# Altium integrated library TI Power Management Supervisor and Reset IC.IntLib: 819 symbols (part 10 of 30)
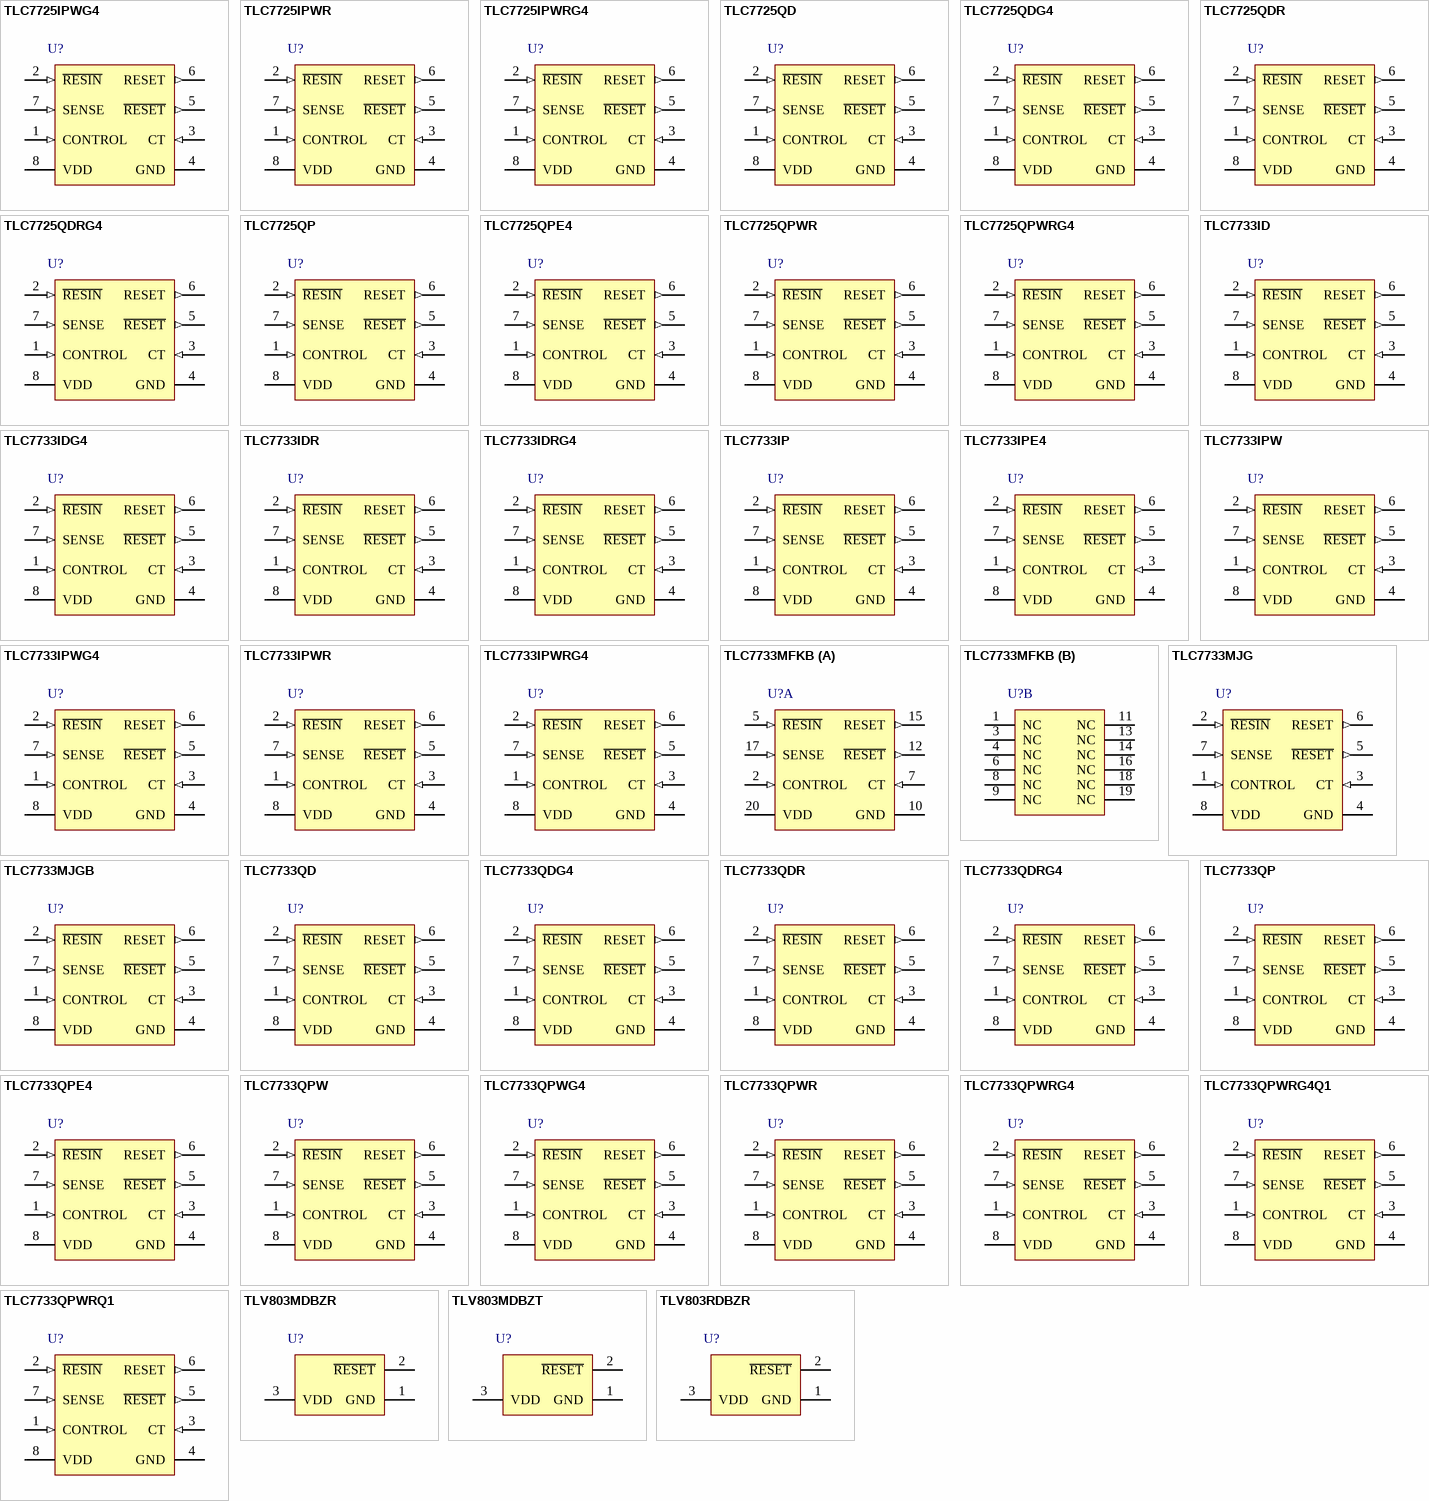
[diagram p30: symbols TLC7725IPWG4 to TLV803RDBZR]

## TLC7733QPWG4
designator U?
Single Supply Voltage Supervisor for 3.3 V Systems with Programmable Time Delay, 1 Supply Monitored, -40 to 125 degC, 8-pin TSSOP (PW), Green (RoHS & no Sb/Br); Manufacturer: Texas Instruments; PartNumber: TLC7733QPWG4; # of supplies monitored: 1; Iq(Typ)(uA): 9; Output Driver Type / Reset Output: Active-low, Push-pull, Active-high, Push-pull; Rating: Catalog; Reset Threshold Accuracy(%): 2.4; SubFamily: Supervisor and Reset IC; Threshold Voltage 1 (typ)(Typ)(V): 2.93; VCC(Max)(V): 6; VCC(Min)(V): 2; DatasheetVersion: SLVS087M; PackageVersion: revG, Feb-2011; PackageReference: PW8; PackageDescription: 8-Pin Plastic Thin Small Outline Package 3 x 4.4 mm Body ,0.65 mm Pitch; Supplier 1: Digi-Key; Supplier Part Number 1: TLC7733QPWG4-ND; Supplier 2: Newark; Supplier Part Number 2: 54K1054; Supplier 3: Mouser; Supplier Part Number 3: 595-TLC7733QPWG4; Time Delay(ms): Programmable; Mounting Technology: Surface Mount; Code_JEDEC: MO-153; ComponentLink1Description: Datasheet; ComponentLink1URL: http://www.ti.com/general/docs/lit/getliterature.tsp?genericPartNumber=TLC7733&fileType=pdf
footprint PW8_N (TSOP, 8-Leads, Body 3x4.4mm, Pitch 0.65mm, IPC Medium Density)
footprint PW8_L (TSOP, 8-Leads, Body 3x4.4mm, Pitch 0.65mm, IPC High Density)
footprint PW8_M (TSOP, 8-Leads, Body 3x4.4mm, Pitch 0.65mm, IPC Low Density)
pins: 1 CONTROL (in), 2 ~{RESIN} (in), 3 CT (in), 4 GND (power), 5 ~{RESET} (out), 6 RESET (out), 7 SENSE (in), 8 VDD (power)

## TLC7733QPWR
designator U?
Single Supply Voltage Supervisor for 3.3 V Systems with Programmable Time Delay, 1 Supply Monitored, -40 to 125 degC, 8-pin TSSOP (PW), Green (RoHS & no Sb/Br); Manufacturer: Texas Instruments; PartNumber: TLC7733QPWR; # of supplies monitored: 1; Iq(Typ)(uA): 9; Output Driver Type / Reset Output: Active-low, Push-pull, Active-high, Push-pull; Rating: Catalog; Reset Threshold Accuracy(%): 2.4; SubFamily: Supervisor and Reset IC; Threshold Voltage 1 (typ)(Typ)(V): 2.93; VCC(Max)(V): 6; VCC(Min)(V): 2; DatasheetVersion: SLVS087M; PackageVersion: revG, Feb-2011; PackageReference: PW8; PackageDescription: 8-Pin Plastic Thin Small Outline Package 3 x 4.4 mm Body ,0.65 mm Pitch; Supplier 1: Digi-Key; Supplier Part Number 1: 296-3288-2-ND; Supplier 2: Digi-Key; Supplier Part Number 2: 296-3288-1-ND; Supplier 3: Digi-Key; Supplier Part Number 3: 296-3288-6-ND; Supplier 4: Newark; Supplier Part Number 4: 76C7555; Supplier 5: Mouser; Supplier Part Number 5: 595-TLC7733QPWR; Time Delay(ms): Programmable; Mounting Technology: Surface Mount; Code_JEDEC: MO-153; ComponentLink1Description: Datasheet; ComponentLink1URL: http://www.ti.com/general/docs/lit/getliterature.tsp?genericPartNumber=TLC7733&fileType=pdf
footprint PW8_N (TSOP, 8-Leads, Body 3x4.4mm, Pitch 0.65mm, IPC Medium Density)
footprint PW8_L (TSOP, 8-Leads, Body 3x4.4mm, Pitch 0.65mm, IPC High Density)
footprint PW8_M (TSOP, 8-Leads, Body 3x4.4mm, Pitch 0.65mm, IPC Low Density)
pins: 1 CONTROL (in), 2 ~{RESIN} (in), 3 CT (in), 4 GND (power), 5 ~{RESET} (out), 6 RESET (out), 7 SENSE (in), 8 VDD (power)

## TLC7733QPWRG4
designator U?
Single Supply Voltage Supervisor for 3.3 V Systems with Programmable Time Delay, 1 Supply Monitored, -40 to 125 degC, 8-pin TSSOP (PW), Green (RoHS & no Sb/Br); Manufacturer: Texas Instruments; PartNumber: TLC7733QPWRG4; # of supplies monitored: 1; Iq(Typ)(uA): 9; Output Driver Type / Reset Output: Active-low, Push-pull, Active-high, Push-pull; Rating: Catalog; Reset Threshold Accuracy(%): 2.4; SubFamily: Supervisor and Reset IC; Threshold Voltage 1 (typ)(Typ)(V): 2.93; VCC(Max)(V): 6; VCC(Min)(V): 2; DatasheetVersion: SLVS087M; PackageVersion: revG, Feb-2011; PackageReference: PW8; PackageDescription: 8-Pin Plastic Thin Small Outline Package 3 x 4.4 mm Body ,0.65 mm Pitch; Supplier 1: Digi-Key; Supplier Part Number 1: TLC7733QPWRG4-ND; Supplier 2: Newark; Supplier Part Number 2: 54K1055; Supplier 3: Mouser; Supplier Part Number 3: 595-TLC7733QPWRG4; Time Delay(ms): Programmable; Mounting Technology: Surface Mount; Code_JEDEC: MO-153; ComponentLink1Description: Datasheet; ComponentLink1URL: http://www.ti.com/general/docs/lit/getliterature.tsp?genericPartNumber=TLC7733&fileType=pdf
footprint PW8_N (TSOP, 8-Leads, Body 3x4.4mm, Pitch 0.65mm, IPC Medium Density)
footprint PW8_L (TSOP, 8-Leads, Body 3x4.4mm, Pitch 0.65mm, IPC High Density)
footprint PW8_M (TSOP, 8-Leads, Body 3x4.4mm, Pitch 0.65mm, IPC Low Density)
pins: 1 CONTROL (in), 2 ~{RESIN} (in), 3 CT (in), 4 GND (power), 5 ~{RESET} (out), 6 RESET (out), 7 SENSE (in), 8 VDD (power)

## TLC7733QPWRG4Q1
designator U?
Automotive Catalog Micropower Supply Voltage Supervisor, 1 Supply Monitored, -40 to 125 degC, 8-pin TSSOP (PW), Green (RoHS & no Sb/Br); Manufacturer: Texas Instruments; PartNumber: TLC7733QPWRG4Q1; # of supplies monitored: 1; Iq(Typ)(uA): 9; Output Driver Type / Reset Output: Active-low, Push-pull, Active-high, Push-pull; Reset Threshold Accuracy(%): 2.4; SubFamily: Supervisor and Reset IC; Threshold Voltage 1 (typ)(Typ)(V): 2.93; Time Delay(ms): Programmable; VCC(Max)(V): 6; VCC(Min)(V): 2; DatasheetVersion: SGLS208A; PackageVersion: revG, Feb-2011; PackageReference: PW8; PackageDescription: 8-Pin Plastic Thin Small Outline Package 3 x 4.4 mm Body ,0.65 mm Pitch; Supplier 1: Digi-Key; Supplier Part Number 1: TLC7733QPWRG4Q1-ND; Supplier 2: Mouser; Supplier Part Number 2: 595-TLC7733QPWRG4Q1; Rating: Automotive; Mounting Technology: Surface Mount; Code_JEDEC: MO-153; ComponentLink1Description: Datasheet; ComponentLink1URL: http://www.ti.com/general/docs/lit/getliterature.tsp?genericPartNumber=TLC7733-Q1&fileType=pdf
footprint PW8_N (TSOP, 8-Leads, Body 3x4.4mm, Pitch 0.65mm, IPC Medium Density)
footprint PW8_L (TSOP, 8-Leads, Body 3x4.4mm, Pitch 0.65mm, IPC High Density)
footprint PW8_M (TSOP, 8-Leads, Body 3x4.4mm, Pitch 0.65mm, IPC Low Density)
pins: 1 CONTROL (in), 2 ~{RESIN} (in), 3 CT (in), 4 GND (power), 5 ~{RESET} (out), 6 RESET (out), 7 SENSE (in), 8 VDD (power)

## TLC7733QPWRQ1
designator U?
Automotive Catalog Micropower Supply Voltage Supervisor, 1 Supply Monitored, -40 to 125 degC, 8-pin TSSOP (PW), Green (RoHS & no Sb/Br); Manufacturer: Texas Instruments; PartNumber: TLC7733QPWRQ1; # of supplies monitored: 1; Iq(Typ)(uA): 9; Output Driver Type / Reset Output: Active-low, Push-pull, Active-high, Push-pull; Reset Threshold Accuracy(%): 2.4; SubFamily: Supervisor and Reset IC; Threshold Voltage 1 (typ)(Typ)(V): 2.93; Time Delay(ms): Programmable; VCC(Max)(V): 6; VCC(Min)(V): 2; DatasheetVersion: SGLS208A; PackageVersion: revG, Feb-2011; PackageReference: PW8; PackageDescription: 8-Pin Plastic Thin Small Outline Package 3 x 4.4 mm Body ,0.65 mm Pitch; Supplier 1: Digi-Key; Supplier Part Number 1: TLC7733QPWRQ1-ND; Supplier 2: Mouser; Supplier Part Number 2: 595-TLC7733QPWRQ1; Rating: Automotive; Mounting Technology: Surface Mount; Code_JEDEC: MO-153; ComponentLink1Description: Datasheet; ComponentLink1URL: http://www.ti.com/general/docs/lit/getliterature.tsp?genericPartNumber=TLC7733-Q1&fileType=pdf
footprint PW8_N (TSOP, 8-Leads, Body 3x4.4mm, Pitch 0.65mm, IPC Medium Density)
footprint PW8_L (TSOP, 8-Leads, Body 3x4.4mm, Pitch 0.65mm, IPC High Density)
footprint PW8_M (TSOP, 8-Leads, Body 3x4.4mm, Pitch 0.65mm, IPC Low Density)
pins: 1 CONTROL (in), 2 ~{RESIN} (in), 3 CT (in), 4 GND (power), 5 ~{RESET} (out), 6 RESET (out), 7 SENSE (in), 8 VDD (power)

## TLV803MDBZR
designator U?
Voltage Supervisor with Active-Low, Open Drain Reset, 1 Supply Monitored, -40 to 125 degC, 3-pin SOT-23 (DBZ), Green (RoHS & no Sb/Br); Manufacturer: Texas Instruments; PartNumber: TLV803MDBZR; # of supplies monitored: 1; Iq(Typ)(uA): 9; Output Driver Type / Reset Output: Active-low, Open-drain; Rating: Catalog; Reset Threshold Accuracy(%): 2; SubFamily: Supervisor and Reset IC; Threshold Voltage 1 (typ)(Typ)(V): 4.38; Time Delay(ms): 200; VCC(Max)(V): 6; VCC(Min)(V): 1.1; DatasheetVersion: SBVS157B; PackageVersion: revB, Apr-2005; PackageReference: DBZ3; PackageDescription: 3-Pin Plastic Small-Outline Package, 0.95 mm Pitch, 2.4 mm Lead Span; Supplier 1: Digi-Key; Supplier Part Number 1: 296-29194-2-ND; Supplier 2: Digi-Key; Supplier Part Number 2: 296-29194-1-ND; Supplier 3: Digi-Key; Supplier Part Number 3: 296-29194-6-ND; Supplier 4: Newark; Supplier Part Number 4: 58T0286; Supplier 5: Mouser; Supplier Part Number 5: 595-TLV803MDBZR; Mounting Technology: Surface Mount; Code_JEDEC: TO-236-AB; ComponentLink1Description: Datasheet; ComponentLink1URL: http://www.ti.com/general/docs/lit/getliterature.tsp?genericPartNumber=TLV803M&fileType=pdf
footprint DBZ3_N (SOT23, 3-Leads, Body 2.9x1.3mm, Pitch 0.95mm, Lead Span 2.4mm, IPC Medium Density)
footprint DBZ3_L (SOT23, 3-Leads, Body 2.9x1.3mm, Pitch 0.95mm, Lead Span 2.4mm, IPC High Density)
footprint DBZ3_M (SOT23, 3-Leads, Body 2.9x1.3mm, Pitch 0.95mm, Lead Span 2.4mm, IPC Low Density)
pins: 1 GND (power), 2 ~{RESET} (oc), 3 VDD (power)

## TLV803MDBZT
designator U?
Voltage Supervisor with Active-Low, Open Drain Reset, 1 Supply Monitored, -40 to 125 degC, 3-pin SOT-23 (DBZ), Green (RoHS & no Sb/Br); Manufacturer: Texas Instruments; PartNumber: TLV803MDBZT; # of supplies monitored: 1; Iq(Typ)(uA): 9; Output Driver Type / Reset Output: Active-low, Open-drain; Rating: Catalog; Reset Threshold Accuracy(%): 2; SubFamily: Supervisor and Reset IC; Threshold Voltage 1 (typ)(Typ)(V): 4.38; Time Delay(ms): 200; VCC(Max)(V): 6; VCC(Min)(V): 1.1; DatasheetVersion: SBVS157B; PackageVersion: revB, Apr-2005; PackageReference: DBZ3; PackageDescription: 3-Pin Plastic Small-Outline Package, 0.95 mm Pitch, 2.4 mm Lead Span; Supplier 1: Digi-Key; Supplier Part Number 1: TLV803MDBZT-ND; Supplier 2: Newark; Supplier Part Number 2: 58T0287; Supplier 3: Mouser; Supplier Part Number 3: 595-TLV803MDBZT; Mounting Technology: Surface Mount; Code_JEDEC: TO-236-AB; ComponentLink1Description: Datasheet; ComponentLink1URL: http://www.ti.com/general/docs/lit/getliterature.tsp?genericPartNumber=TLV803M&fileType=pdf
footprint DBZ3_N (SOT23, 3-Leads, Body 2.9x1.3mm, Pitch 0.95mm, Lead Span 2.4mm, IPC Medium Density)
footprint DBZ3_L (SOT23, 3-Leads, Body 2.9x1.3mm, Pitch 0.95mm, Lead Span 2.4mm, IPC High Density)
footprint DBZ3_M (SOT23, 3-Leads, Body 2.9x1.3mm, Pitch 0.95mm, Lead Span 2.4mm, IPC Low Density)
pins: 1 GND (power), 2 ~{RESET} (oc), 3 VDD (power)

## TLV803RDBZR
designator U?
Voltage Supervisor with Active-Low, Open Drain Reset, 1 Supply Monitored, -40 to 125 degC, 3-pin SOT-23 (DBZ), Green (RoHS & no Sb/Br); Manufacturer: Texas Instruments; PartNumber: TLV803RDBZR; # of supplies monitored: 1; Iq(Typ)(uA): 9; Output Driver Type / Reset Output: Active-low, Open-drain; Rating: Catalog; Reset Threshold Accuracy(%): 2; SubFamily: Supervisor and Reset IC; Threshold Voltage 1 (typ)(Typ)(V): 2.63; Time Delay(ms): 200; VCC(Max)(V): 6; VCC(Min)(V): 1.1; DatasheetVersion: SBVS157B; PackageVersion: revB, Apr-2005; PackageReference: DBZ3; PackageDescription: 3-Pin Plastic Small-Outline Package, 0.95 mm Pitch, 2.4 mm Lead Span; Supplier 1: Digi-Key; Supplier Part Number 1: 296-29195-2-ND; Supplier 2: Digi-Key; Supplier Part Number 2: 296-29195-1-ND; Supplier 3: Digi-Key; Supplier Part Number 3: 296-29195-6-ND; Supplier 4: Mouser; Supplier Part Number 4: 595-TLV803RDBZR; Mounting Technology: Surface Mount; Code_JEDEC: TO-236-AB; ComponentLink1Description: Datasheet; ComponentLink1URL: http://www.ti.com/general/docs/lit/getliterature.tsp?genericPartNumber=TLV803R&fileType=pdf
footprint DBZ3_N (SOT23, 3-Leads, Body 2.9x1.3mm, Pitch 0.95mm, Lead Span 2.4mm, IPC Medium Density)
footprint DBZ3_L (SOT23, 3-Leads, Body 2.9x1.3mm, Pitch 0.95mm, Lead Span 2.4mm, IPC High Density)
footprint DBZ3_M (SOT23, 3-Leads, Body 2.9x1.3mm, Pitch 0.95mm, Lead Span 2.4mm, IPC Low Density)
pins: 1 GND (power), 2 ~{RESET} (oc), 3 VDD (power)

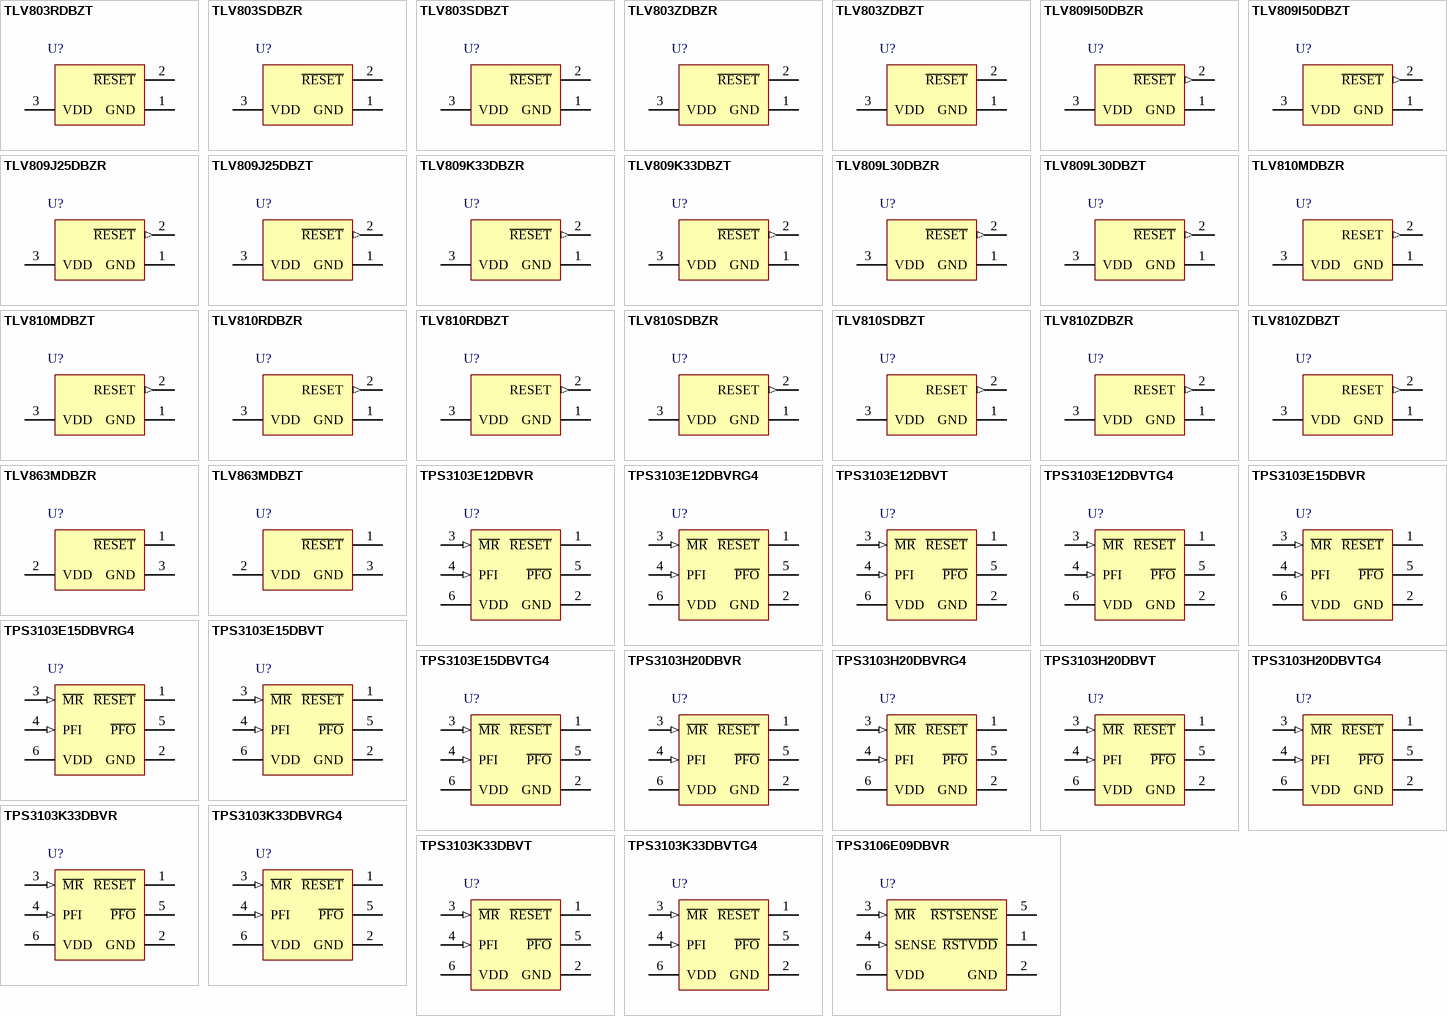
[diagram p8: symbols TLV803RDBZT to TPS3106E09DBVR]

## TLV803RDBZT
designator U?
Voltage Supervisor with Active-Low, Open Drain Reset, 1 Supply Monitored, -40 to 125 degC, 3-pin SOT-23 (DBZ), Green (RoHS & no Sb/Br); Manufacturer: Texas Instruments; PartNumber: TLV803RDBZT; # of supplies monitored: 1; Iq(Typ)(uA): 9; Output Driver Type / Reset Output: Active-low, Open-drain; Rating: Catalog; Reset Threshold Accuracy(%): 2; SubFamily: Supervisor and Reset IC; Threshold Voltage 1 (typ)(Typ)(V): 2.63; Time Delay(ms): 200; VCC(Max)(V): 6; VCC(Min)(V): 1.1; DatasheetVersion: SBVS157B; PackageVersion: revB, Apr-2005; PackageReference: DBZ3; PackageDescription: 3-Pin Plastic Small-Outline Package, 0.95 mm Pitch, 2.4 mm Lead Span; Supplier 1: Digi-Key; Supplier Part Number 1: TLV803RDBZT-ND; Supplier 2: Mouser; Supplier Part Number 2: 595-TLV803RDBZT; Mounting Technology: Surface Mount; Code_JEDEC: TO-236-AB; ComponentLink1Description: Datasheet; ComponentLink1URL: http://www.ti.com/general/docs/lit/getliterature.tsp?genericPartNumber=TLV803R&fileType=pdf
footprint DBZ3_N (SOT23, 3-Leads, Body 2.9x1.3mm, Pitch 0.95mm, Lead Span 2.4mm, IPC Medium Density)
footprint DBZ3_L (SOT23, 3-Leads, Body 2.9x1.3mm, Pitch 0.95mm, Lead Span 2.4mm, IPC High Density)
footprint DBZ3_M (SOT23, 3-Leads, Body 2.9x1.3mm, Pitch 0.95mm, Lead Span 2.4mm, IPC Low Density)
pins: 1 GND (power), 2 ~{RESET} (oc), 3 VDD (power)

## TLV803SDBZR
designator U?
Voltage Supervisor with Active-Low, Open Drain Reset, 1 Supply Monitored, -40 to 125 degC, 3-pin SOT-23 (DBZ), Green (RoHS & no Sb/Br); Manufacturer: Texas Instruments; PartNumber: TLV803SDBZR; # of supplies monitored: 1; Iq(Typ)(uA): 9; Output Driver Type / Reset Output: Active-low, Open-drain; Rating: Catalog; Reset Threshold Accuracy(%): 2; SubFamily: Supervisor and Reset IC; Threshold Voltage 1 (typ)(Typ)(V): 2.93; Time Delay(ms): 200; VCC(Max)(V): 6; VCC(Min)(V): 1.1; DatasheetVersion: SBVS157B; PackageVersion: revB, Apr-2005; PackageReference: DBZ3; PackageDescription: 3-Pin Plastic Small-Outline Package, 0.95 mm Pitch, 2.4 mm Lead Span; Supplier 1: Digi-Key; Supplier Part Number 1: 296-29196-2-ND; Supplier 2: Digi-Key; Supplier Part Number 2: 296-29196-1-ND; Supplier 3: Digi-Key; Supplier Part Number 3: 296-29196-6-ND; Supplier 4: Newark; Supplier Part Number 4: 58T0290; Supplier 5: Mouser; Supplier Part Number 5: 595-TLV803SDBZR; Mounting Technology: Surface Mount; Code_JEDEC: TO-236-AB; ComponentLink1Description: Datasheet; ComponentLink1URL: http://www.ti.com/general/docs/lit/getliterature.tsp?genericPartNumber=TLV803S&fileType=pdf
footprint DBZ3_N (SOT23, 3-Leads, Body 2.9x1.3mm, Pitch 0.95mm, Lead Span 2.4mm, IPC Medium Density)
footprint DBZ3_L (SOT23, 3-Leads, Body 2.9x1.3mm, Pitch 0.95mm, Lead Span 2.4mm, IPC High Density)
footprint DBZ3_M (SOT23, 3-Leads, Body 2.9x1.3mm, Pitch 0.95mm, Lead Span 2.4mm, IPC Low Density)
pins: 1 GND (power), 2 ~{RESET} (oc), 3 VDD (power)

## TLV803SDBZT
designator U?
Voltage Supervisor with Active-Low, Open Drain Reset, 1 Supply Monitored, -40 to 125 degC, 3-pin SOT-23 (DBZ), Green (RoHS & no Sb/Br); Manufacturer: Texas Instruments; PartNumber: TLV803SDBZT; # of supplies monitored: 1; Iq(Typ)(uA): 9; Output Driver Type / Reset Output: Active-low, Open-drain; Rating: Catalog; Reset Threshold Accuracy(%): 2; SubFamily: Supervisor and Reset IC; Threshold Voltage 1 (typ)(Typ)(V): 2.93; Time Delay(ms): 200; VCC(Max)(V): 6; VCC(Min)(V): 1.1; DatasheetVersion: SBVS157B; PackageVersion: revB, Apr-2005; PackageReference: DBZ3; PackageDescription: 3-Pin Plastic Small-Outline Package, 0.95 mm Pitch, 2.4 mm Lead Span; Supplier 1: Digi-Key; Supplier Part Number 1: 296-30524-2-ND; Supplier 2: Digi-Key; Supplier Part Number 2: 296-30524-1-ND; Supplier 3: Digi-Key; Supplier Part Number 3: 296-30524-6-ND; Supplier 4: Newark; Supplier Part Number 4: 58T0291; Supplier 5: Mouser; Supplier Part Number 5: 595-TLV803SDBZT; Mounting Technology: Surface Mount; Code_JEDEC: TO-236-AB; ComponentLink1Description: Datasheet; ComponentLink1URL: http://www.ti.com/general/docs/lit/getliterature.tsp?genericPartNumber=TLV803S&fileType=pdf
footprint DBZ3_N (SOT23, 3-Leads, Body 2.9x1.3mm, Pitch 0.95mm, Lead Span 2.4mm, IPC Medium Density)
footprint DBZ3_L (SOT23, 3-Leads, Body 2.9x1.3mm, Pitch 0.95mm, Lead Span 2.4mm, IPC High Density)
footprint DBZ3_M (SOT23, 3-Leads, Body 2.9x1.3mm, Pitch 0.95mm, Lead Span 2.4mm, IPC Low Density)
pins: 1 GND (power), 2 ~{RESET} (oc), 3 VDD (power)

## TLV803ZDBZR
designator U?
Voltage Supervisor with Active-Low, Open Drain Reset, 1 Supply Monitored, -40 to 125 degC, 3-pin SOT-23 (DBZ), Green (RoHS & no Sb/Br); Manufacturer: Texas Instruments; PartNumber: TLV803ZDBZR; # of supplies monitored: 1; Iq(Typ)(uA): 9; Output Driver Type / Reset Output: Active-low, Open-drain; Rating: Catalog; Reset Threshold Accuracy(%): 2; SubFamily: Supervisor and Reset IC; Threshold Voltage 1 (typ)(Typ)(V): 2.32; Time Delay(ms): 200; VCC(Max)(V): 6; VCC(Min)(V): 1.1; DatasheetVersion: SBVS157B; PackageVersion: revB, Apr-2005; PackageReference: DBZ3; PackageDescription: 3-Pin Plastic Small-Outline Package, 0.95 mm Pitch, 2.4 mm Lead Span; Supplier 1: Digi-Key; Supplier Part Number 1: 296-29197-2-ND; Supplier 2: Digi-Key; Supplier Part Number 2: 296-29197-1-ND; Supplier 3: Digi-Key; Supplier Part Number 3: 296-29197-6-ND; Supplier 4: Mouser; Supplier Part Number 4: 595-TLV803ZDBZR; Mounting Technology: Surface Mount; Code_JEDEC: TO-236-AB; ComponentLink1Description: Datasheet; ComponentLink1URL: http://www.ti.com/general/docs/lit/getliterature.tsp?genericPartNumber=TLV803Z&fileType=pdf
footprint DBZ3_N (SOT23, 3-Leads, Body 2.9x1.3mm, Pitch 0.95mm, Lead Span 2.4mm, IPC Medium Density)
footprint DBZ3_L (SOT23, 3-Leads, Body 2.9x1.3mm, Pitch 0.95mm, Lead Span 2.4mm, IPC High Density)
footprint DBZ3_M (SOT23, 3-Leads, Body 2.9x1.3mm, Pitch 0.95mm, Lead Span 2.4mm, IPC Low Density)
pins: 1 GND (power), 2 ~{RESET} (oc), 3 VDD (power)

## TLV803ZDBZT
designator U?
Voltage Supervisor with Active-Low, Open Drain Reset, 1 Supply Monitored, -40 to 125 degC, 3-pin SOT-23 (DBZ), Green (RoHS & no Sb/Br); Manufacturer: Texas Instruments; PartNumber: TLV803ZDBZT; # of supplies monitored: 1; Iq(Typ)(uA): 9; Output Driver Type / Reset Output: Active-low, Open-drain; Rating: Catalog; Reset Threshold Accuracy(%): 2; SubFamily: Supervisor and Reset IC; Threshold Voltage 1 (typ)(Typ)(V): 2.32; Time Delay(ms): 200; VCC(Max)(V): 6; VCC(Min)(V): 1.1; DatasheetVersion: SBVS157B; PackageVersion: revB, Apr-2005; PackageReference: DBZ3; PackageDescription: 3-Pin Plastic Small-Outline Package, 0.95 mm Pitch, 2.4 mm Lead Span; Supplier 1: Digi-Key; Supplier Part Number 1: TLV803ZDBZT-ND; Supplier 2: Mouser; Supplier Part Number 2: 595-TLV803ZDBZT; Mounting Technology: Surface Mount; Code_JEDEC: TO-236-AB; ComponentLink1Description: Datasheet; ComponentLink1URL: http://www.ti.com/general/docs/lit/getliterature.tsp?genericPartNumber=TLV803Z&fileType=pdf
footprint DBZ3_N (SOT23, 3-Leads, Body 2.9x1.3mm, Pitch 0.95mm, Lead Span 2.4mm, IPC Medium Density)
footprint DBZ3_L (SOT23, 3-Leads, Body 2.9x1.3mm, Pitch 0.95mm, Lead Span 2.4mm, IPC High Density)
footprint DBZ3_M (SOT23, 3-Leads, Body 2.9x1.3mm, Pitch 0.95mm, Lead Span 2.4mm, IPC Low Density)
pins: 1 GND (power), 2 ~{RESET} (oc), 3 VDD (power)

## TLV809I50DBZR
designator U?
Supply Voltage Supervisor, 1 Supply Monitored, -40 to 85 degC, 3-pin SOT-23 (DBZ), Green (RoHS & no Sb/Br); Manufacturer: Texas Instruments; PartNumber: TLV809I50DBZR; # of supplies monitored: 1; Iq(Typ)(uA): 9; Output Driver Type / Reset Output: Active-low, Push-pull; Rating: Catalog; Reset Threshold Accuracy(%): 2; SubFamily: Supervisor and Reset IC; Threshold Voltage 1 (typ)(Typ)(V): 4.55; Time Delay(ms): 200; VCC(Max)(V): 6; DatasheetVersion: SLVSA03C; PackageVersion: revB, Apr-2005; PackageReference: DBZ3; PackageDescription: 3-Pin Plastic Small-Outline Package, 0.95 mm Pitch, 2.4 mm Lead Span; Supplier 1: Digi-Key; Supplier Part Number 1: TLV809I50DBZR-ND; Supplier 2: Mouser; Supplier Part Number 2: 595-TLV809I50DBZR; VCC(Min)(V): 2; Mounting Technology: Surface Mount; Code_JEDEC: TO-236-AB; ComponentLink1Description: Datasheet; ComponentLink1URL: http://www.ti.com/general/docs/lit/getliterature.tsp?genericPartNumber=TLV809I50&fileType=pdf
footprint DBZ3_N (SOT23, 3-Leads, Body 2.9x1.3mm, Pitch 0.95mm, Lead Span 2.4mm, IPC Medium Density)
footprint DBZ3_L (SOT23, 3-Leads, Body 2.9x1.3mm, Pitch 0.95mm, Lead Span 2.4mm, IPC High Density)
footprint DBZ3_M (SOT23, 3-Leads, Body 2.9x1.3mm, Pitch 0.95mm, Lead Span 2.4mm, IPC Low Density)
pins: 1 GND (power), 2 ~{RESET} (out), 3 VDD (power)

## TLV809I50DBZT
designator U?
Supply Voltage Supervisor, 1 Supply Monitored, -40 to 85 degC, 3-pin SOT-23 (DBZ), Green (RoHS & no Sb/Br); Manufacturer: Texas Instruments; PartNumber: TLV809I50DBZT; # of supplies monitored: 1; Iq(Typ)(uA): 9; Output Driver Type / Reset Output: Active-low, Push-pull; Rating: Catalog; Reset Threshold Accuracy(%): 2; SubFamily: Supervisor and Reset IC; Threshold Voltage 1 (typ)(Typ)(V): 4.55; Time Delay(ms): 200; VCC(Max)(V): 6; DatasheetVersion: SLVSA03C; PackageVersion: revB, Apr-2005; PackageReference: DBZ3; PackageDescription: 3-Pin Plastic Small-Outline Package, 0.95 mm Pitch, 2.4 mm Lead Span; Supplier 1: Digi-Key; Supplier Part Number 1: 296-28208-2-ND; Supplier 2: Digi-Key; Supplier Part Number 2: 296-28208-1-ND; Supplier 3: Digi-Key; Supplier Part Number 3: 296-28208-6-ND; Supplier 4: Mouser; Supplier Part Number 4: 595-TLV809I50DBZT; VCC(Min)(V): 2; Mounting Technology: Surface Mount; Code_JEDEC: TO-236-AB; ComponentLink1Description: Datasheet; ComponentLink1URL: http://www.ti.com/general/docs/lit/getliterature.tsp?genericPartNumber=TLV809I50&fileType=pdf
footprint DBZ3_N (SOT23, 3-Leads, Body 2.9x1.3mm, Pitch 0.95mm, Lead Span 2.4mm, IPC Medium Density)
footprint DBZ3_L (SOT23, 3-Leads, Body 2.9x1.3mm, Pitch 0.95mm, Lead Span 2.4mm, IPC High Density)
footprint DBZ3_M (SOT23, 3-Leads, Body 2.9x1.3mm, Pitch 0.95mm, Lead Span 2.4mm, IPC Low Density)
pins: 1 GND (power), 2 ~{RESET} (out), 3 VDD (power)

## TLV809J25DBZR
designator U?
Supply Voltage Supervisor, 1 Supply Monitored, -40 to 85 degC, 3-pin SOT-23 (DBZ), Green (RoHS & no Sb/Br); Manufacturer: Texas Instruments; PartNumber: TLV809J25DBZR; # of supplies monitored: 1; Iq(Typ)(uA): 9; Output Driver Type / Reset Output: Active-low, Push-pull; Rating: Catalog; Reset Threshold Accuracy(%): 2; SubFamily: Supervisor and Reset IC; Threshold Voltage 1 (typ)(Typ)(V): 2.25; Time Delay(ms): 200; VCC(Max)(V): 6; DatasheetVersion: SLVSA03C; PackageVersion: revB, Apr-2005; PackageReference: DBZ3; PackageDescription: 3-Pin Plastic Small-Outline Package, 0.95 mm Pitch, 2.4 mm Lead Span; Supplier 1: Digi-Key; Supplier Part Number 1: TLV809J25DBZR-ND; Supplier 2: Mouser; Supplier Part Number 2: 595-TLV809J25DBZR; VCC(Min)(V): 2; Mounting Technology: Surface Mount; Code_JEDEC: TO-236-AB; ComponentLink1Description: Datasheet; ComponentLink1URL: http://www.ti.com/general/docs/lit/getliterature.tsp?genericPartNumber=TLV809J25&fileType=pdf
footprint DBZ3_N (SOT23, 3-Leads, Body 2.9x1.3mm, Pitch 0.95mm, Lead Span 2.4mm, IPC Medium Density)
footprint DBZ3_L (SOT23, 3-Leads, Body 2.9x1.3mm, Pitch 0.95mm, Lead Span 2.4mm, IPC High Density)
footprint DBZ3_M (SOT23, 3-Leads, Body 2.9x1.3mm, Pitch 0.95mm, Lead Span 2.4mm, IPC Low Density)
pins: 1 GND (power), 2 ~{RESET} (out), 3 VDD (power)

## TLV809J25DBZT
designator U?
Supply Voltage Supervisor, 1 Supply Monitored, -40 to 85 degC, 3-pin SOT-23 (DBZ), Green (RoHS & no Sb/Br); Manufacturer: Texas Instruments; PartNumber: TLV809J25DBZT; # of supplies monitored: 1; Iq(Typ)(uA): 9; Output Driver Type / Reset Output: Active-low, Push-pull; Rating: Catalog; Reset Threshold Accuracy(%): 2; SubFamily: Supervisor and Reset IC; Threshold Voltage 1 (typ)(Typ)(V): 2.25; Time Delay(ms): 200; VCC(Max)(V): 6; DatasheetVersion: SLVSA03C; PackageVersion: revB, Apr-2005; PackageReference: DBZ3; PackageDescription: 3-Pin Plastic Small-Outline Package, 0.95 mm Pitch, 2.4 mm Lead Span; Supplier 1: Digi-Key; Supplier Part Number 1: 296-28209-2-ND; Supplier 2: Digi-Key; Supplier Part Number 2: 296-28209-1-ND; Supplier 3: Digi-Key; Supplier Part Number 3: 296-28209-6-ND; Supplier 4: Mouser; Supplier Part Number 4: 595-TLV809J25DBZT; VCC(Min)(V): 2; Mounting Technology: Surface Mount; Code_JEDEC: TO-236-AB; ComponentLink1Description: Datasheet; ComponentLink1URL: http://www.ti.com/general/docs/lit/getliterature.tsp?genericPartNumber=TLV809J25&fileType=pdf
footprint DBZ3_N (SOT23, 3-Leads, Body 2.9x1.3mm, Pitch 0.95mm, Lead Span 2.4mm, IPC Medium Density)
footprint DBZ3_L (SOT23, 3-Leads, Body 2.9x1.3mm, Pitch 0.95mm, Lead Span 2.4mm, IPC High Density)
footprint DBZ3_M (SOT23, 3-Leads, Body 2.9x1.3mm, Pitch 0.95mm, Lead Span 2.4mm, IPC Low Density)
pins: 1 GND (power), 2 ~{RESET} (out), 3 VDD (power)

## TLV809K33DBZR
designator U?
Supply Voltage Supervisor, 1 Supply Monitored, -40 to 85 degC, 3-pin SOT-23 (DBZ), Green (RoHS & no Sb/Br); Manufacturer: Texas Instruments; PartNumber: TLV809K33DBZR; # of supplies monitored: 1; Iq(Typ)(uA): 9; Output Driver Type / Reset Output: Active-low, Push-pull; Rating: Catalog; Reset Threshold Accuracy(%): 2; SubFamily: Supervisor and Reset IC; Threshold Voltage 1 (typ)(Typ)(V): 2.93; Time Delay(ms): 200; VCC(Max)(V): 6; DatasheetVersion: SLVSA03C; PackageVersion: revB, Apr-2005; PackageReference: DBZ3; PackageDescription: 3-Pin Plastic Small-Outline Package, 0.95 mm Pitch, 2.4 mm Lead Span; Supplier 1: Digi-Key; Supplier Part Number 1: TLV809K33DBZR-ND; Supplier 2: Mouser; Supplier Part Number 2: 595-TLV809K33DBZR; VCC(Min)(V): 2; Mounting Technology: Surface Mount; Code_JEDEC: TO-236-AB; ComponentLink1Description: Datasheet; ComponentLink1URL: http://www.ti.com/general/docs/lit/getliterature.tsp?genericPartNumber=TLV809K33&fileType=pdf
footprint DBZ3_N (SOT23, 3-Leads, Body 2.9x1.3mm, Pitch 0.95mm, Lead Span 2.4mm, IPC Medium Density)
footprint DBZ3_L (SOT23, 3-Leads, Body 2.9x1.3mm, Pitch 0.95mm, Lead Span 2.4mm, IPC High Density)
footprint DBZ3_M (SOT23, 3-Leads, Body 2.9x1.3mm, Pitch 0.95mm, Lead Span 2.4mm, IPC Low Density)
pins: 1 GND (power), 2 ~{RESET} (out), 3 VDD (power)

## TLV809K33DBZT
designator U?
Supply Voltage Supervisor, 1 Supply Monitored, -40 to 85 degC, 3-pin SOT-23 (DBZ), Green (RoHS & no Sb/Br); Manufacturer: Texas Instruments; PartNumber: TLV809K33DBZT; # of supplies monitored: 1; Iq(Typ)(uA): 9; Output Driver Type / Reset Output: Active-low, Push-pull; Rating: Catalog; Reset Threshold Accuracy(%): 2; SubFamily: Supervisor and Reset IC; Threshold Voltage 1 (typ)(Typ)(V): 2.93; Time Delay(ms): 200; VCC(Max)(V): 6; DatasheetVersion: SLVSA03C; PackageVersion: revB, Apr-2005; PackageReference: DBZ3; PackageDescription: 3-Pin Plastic Small-Outline Package, 0.95 mm Pitch, 2.4 mm Lead Span; Supplier 1: Digi-Key; Supplier Part Number 1: 296-28210-2-ND; Supplier 2: Digi-Key; Supplier Part Number 2: 296-28210-1-ND; Supplier 3: Digi-Key; Supplier Part Number 3: 296-28210-6-ND; Supplier 4: Newark; Supplier Part Number 4: 27T6813; Supplier 5: Mouser; Supplier Part Number 5: 595-TLV809K33DBZT; VCC(Min)(V): 2; Mounting Technology: Surface Mount; Code_JEDEC: TO-236-AB; ComponentLink1Description: Datasheet; ComponentLink1URL: http://www.ti.com/general/docs/lit/getliterature.tsp?genericPartNumber=TLV809K33&fileType=pdf
footprint DBZ3_N (SOT23, 3-Leads, Body 2.9x1.3mm, Pitch 0.95mm, Lead Span 2.4mm, IPC Medium Density)
footprint DBZ3_L (SOT23, 3-Leads, Body 2.9x1.3mm, Pitch 0.95mm, Lead Span 2.4mm, IPC High Density)
footprint DBZ3_M (SOT23, 3-Leads, Body 2.9x1.3mm, Pitch 0.95mm, Lead Span 2.4mm, IPC Low Density)
pins: 1 GND (power), 2 ~{RESET} (out), 3 VDD (power)

## TLV809L30DBZR
designator U?
Supply Voltage Supervisor, 1 Supply Monitored, -40 to 85 degC, 3-pin SOT-23 (DBZ), Green (RoHS & no Sb/Br); Manufacturer: Texas Instruments; PartNumber: TLV809L30DBZR; # of supplies monitored: 1; Iq(Typ)(uA): 9; Output Driver Type / Reset Output: Active-low, Push-pull; Rating: Catalog; Reset Threshold Accuracy(%): 2; SubFamily: Supervisor and Reset IC; Threshold Voltage 1 (typ)(Typ)(V): 2.64; Time Delay(ms): 200; VCC(Max)(V): 6; DatasheetVersion: SLVSA03C; PackageVersion: revB, Apr-2005; PackageReference: DBZ3; PackageDescription: 3-Pin Plastic Small-Outline Package, 0.95 mm Pitch, 2.4 mm Lead Span; Supplier 1: Digi-Key; Supplier Part Number 1: TLV809L30DBZR-ND; Supplier 2: Mouser; Supplier Part Number 2: 595-TLV809L30DBZR; VCC(Min)(V): 2; Mounting Technology: Surface Mount; Code_JEDEC: TO-236-AB; ComponentLink1Description: Datasheet; ComponentLink1URL: http://www.ti.com/general/docs/lit/getliterature.tsp?genericPartNumber=TLV809L30&fileType=pdf
footprint DBZ3_N (SOT23, 3-Leads, Body 2.9x1.3mm, Pitch 0.95mm, Lead Span 2.4mm, IPC Medium Density)
footprint DBZ3_L (SOT23, 3-Leads, Body 2.9x1.3mm, Pitch 0.95mm, Lead Span 2.4mm, IPC High Density)
footprint DBZ3_M (SOT23, 3-Leads, Body 2.9x1.3mm, Pitch 0.95mm, Lead Span 2.4mm, IPC Low Density)
pins: 1 GND (power), 2 ~{RESET} (out), 3 VDD (power)

## TLV809L30DBZT
designator U?
Supply Voltage Supervisor, 1 Supply Monitored, -40 to 85 degC, 3-pin SOT-23 (DBZ), Green (RoHS & no Sb/Br); Manufacturer: Texas Instruments; PartNumber: TLV809L30DBZT; # of supplies monitored: 1; Iq(Typ)(uA): 9; Output Driver Type / Reset Output: Active-low, Push-pull; Rating: Catalog; Reset Threshold Accuracy(%): 2; SubFamily: Supervisor and Reset IC; Threshold Voltage 1 (typ)(Typ)(V): 2.64; Time Delay(ms): 200; VCC(Max)(V): 6; DatasheetVersion: SLVSA03C; PackageVersion: revB, Apr-2005; PackageReference: DBZ3; PackageDescription: 3-Pin Plastic Small-Outline Package, 0.95 mm Pitch, 2.4 mm Lead Span; Supplier 1: Digi-Key; Supplier Part Number 1: 296-28211-2-ND; Supplier 2: Digi-Key; Supplier Part Number 2: 296-28211-1-ND; Supplier 3: Digi-Key; Supplier Part Number 3: 296-28211-6-ND; Supplier 4: Mouser; Supplier Part Number 4: 595-TLV809L30DBZT; VCC(Min)(V): 2; Mounting Technology: Surface Mount; Code_JEDEC: TO-236-AB; ComponentLink1Description: Datasheet; ComponentLink1URL: http://www.ti.com/general/docs/lit/getliterature.tsp?genericPartNumber=TLV809L30&fileType=pdf
footprint DBZ3_N (SOT23, 3-Leads, Body 2.9x1.3mm, Pitch 0.95mm, Lead Span 2.4mm, IPC Medium Density)
footprint DBZ3_L (SOT23, 3-Leads, Body 2.9x1.3mm, Pitch 0.95mm, Lead Span 2.4mm, IPC High Density)
footprint DBZ3_M (SOT23, 3-Leads, Body 2.9x1.3mm, Pitch 0.95mm, Lead Span 2.4mm, IPC Low Density)
pins: 1 GND (power), 2 ~{RESET} (out), 3 VDD (power)

## TLV810MDBZR
designator U?
Voltage Supervisor with Active-High, Push-Pull Reset, 1 Supply Monitored, -40 to 125 degC, 3-pin SOT-23 (DBZ), Green (RoHS & no Sb/Br); Manufacturer: Texas Instruments; PartNumber: TLV810MDBZR; # of supplies monitored: 1; Iq(Typ)(uA): 9; Rating: Catalog; Reset Threshold Accuracy(%): 2; SubFamily: Supervisor and Reset IC; Threshold Voltage 1 (typ)(Typ)(V): 4.38; Time Delay(ms): 200; VCC(Max)(V): 6; VCC(Min)(V): 1.1; DatasheetVersion: SBVS158A; PackageVersion: revB, Apr-2005; PackageReference: DBZ3; PackageDescription: 3-Pin Plastic Small-Outline Package, 0.95 mm Pitch, 2.4 mm Lead Span; Supplier 1: Digi-Key; Supplier Part Number 1: 296-29198-2-ND; Supplier 2: Digi-Key; Supplier Part Number 2: 296-29198-1-ND; Supplier 3: Digi-Key; Supplier Part Number 3: 296-29198-6-ND; Supplier 4: Newark; Supplier Part Number 4: 58T0295; Supplier 5: Mouser; Supplier Part Number 5: 595-TLV810MDBZR; Output Driver Type / Reset Output: Active-high, Push-pull; Mounting Technology: Surface Mount; Code_JEDEC: TO-236-AB; ComponentLink1Description: Datasheet; ComponentLink1URL: http://www.ti.com/general/docs/lit/getliterature.tsp?genericPartNumber=TLV810M&fileType=pdf
footprint DBZ3_N (SOT23, 3-Leads, Body 2.9x1.3mm, Pitch 0.95mm, Lead Span 2.4mm, IPC Medium Density)
footprint DBZ3_L (SOT23, 3-Leads, Body 2.9x1.3mm, Pitch 0.95mm, Lead Span 2.4mm, IPC High Density)
footprint DBZ3_M (SOT23, 3-Leads, Body 2.9x1.3mm, Pitch 0.95mm, Lead Span 2.4mm, IPC Low Density)
pins: 1 GND (power), 2 RESET (out), 3 VDD (power)

## TLV810MDBZT
designator U?
Voltage Supervisor with Active-High, Push-Pull Reset, 1 Supply Monitored, -40 to 125 degC, 3-pin SOT-23 (DBZ), Green (RoHS & no Sb/Br); Manufacturer: Texas Instruments; PartNumber: TLV810MDBZT; # of supplies monitored: 1; Iq(Typ)(uA): 9; Rating: Catalog; Reset Threshold Accuracy(%): 2; SubFamily: Supervisor and Reset IC; Threshold Voltage 1 (typ)(Typ)(V): 4.38; Time Delay(ms): 200; VCC(Max)(V): 6; VCC(Min)(V): 1.1; DatasheetVersion: SBVS158A; PackageVersion: revB, Apr-2005; PackageReference: DBZ3; PackageDescription: 3-Pin Plastic Small-Outline Package, 0.95 mm Pitch, 2.4 mm Lead Span; Supplier 1: Digi-Key; Supplier Part Number 1: TLV810MDBZT-ND; Supplier 2: Mouser; Supplier Part Number 2: 595-TLV810MDBZT; Output Driver Type / Reset Output: Active-high, Push-pull; Mounting Technology: Surface Mount; Code_JEDEC: TO-236-AB; ComponentLink1Description: Datasheet; ComponentLink1URL: http://www.ti.com/general/docs/lit/getliterature.tsp?genericPartNumber=TLV810M&fileType=pdf
footprint DBZ3_N (SOT23, 3-Leads, Body 2.9x1.3mm, Pitch 0.95mm, Lead Span 2.4mm, IPC Medium Density)
footprint DBZ3_L (SOT23, 3-Leads, Body 2.9x1.3mm, Pitch 0.95mm, Lead Span 2.4mm, IPC High Density)
footprint DBZ3_M (SOT23, 3-Leads, Body 2.9x1.3mm, Pitch 0.95mm, Lead Span 2.4mm, IPC Low Density)
pins: 1 GND (power), 2 RESET (out), 3 VDD (power)

## TLV810RDBZR
designator U?
Voltage Supervisor with Active-High, Push-Pull Reset, 1 Supply Monitored, -40 to 125 degC, 3-pin SOT-23 (DBZ), Green (RoHS & no Sb/Br); Manufacturer: Texas Instruments; PartNumber: TLV810RDBZR; # of supplies monitored: 1; Iq(Typ)(uA): 9; Rating: Catalog; Reset Threshold Accuracy(%): 2; SubFamily: Supervisor and Reset IC; Threshold Voltage 1 (typ)(Typ)(V): 2.63; Time Delay(ms): 200; VCC(Max)(V): 6; VCC(Min)(V): 1.1; DatasheetVersion: SBVS158A; PackageVersion: revB, Apr-2005; PackageReference: DBZ3; PackageDescription: 3-Pin Plastic Small-Outline Package, 0.95 mm Pitch, 2.4 mm Lead Span; Supplier 1: Digi-Key; Supplier Part Number 1: 296-29199-2-ND; Supplier 2: Digi-Key; Supplier Part Number 2: 296-29199-1-ND; Supplier 3: Digi-Key; Supplier Part Number 3: 296-29199-6-ND; Supplier 4: Newark; Supplier Part Number 4: 58T0297; Supplier 5: Mouser; Supplier Part Number 5: 595-TLV810RDBZR; Output Driver Type / Reset Output: Active-high, Push-pull; Mounting Technology: Surface Mount; Code_JEDEC: TO-236-AB; ComponentLink1Description: Datasheet; ComponentLink1URL: http://www.ti.com/general/docs/lit/getliterature.tsp?genericPartNumber=TLV810R&fileType=pdf
footprint DBZ3_N (SOT23, 3-Leads, Body 2.9x1.3mm, Pitch 0.95mm, Lead Span 2.4mm, IPC Medium Density)
footprint DBZ3_L (SOT23, 3-Leads, Body 2.9x1.3mm, Pitch 0.95mm, Lead Span 2.4mm, IPC High Density)
footprint DBZ3_M (SOT23, 3-Leads, Body 2.9x1.3mm, Pitch 0.95mm, Lead Span 2.4mm, IPC Low Density)
pins: 1 GND (power), 2 RESET (out), 3 VDD (power)

## TLV810RDBZT
designator U?
Voltage Supervisor with Active-High, Push-Pull Reset, 1 Supply Monitored, -40 to 125 degC, 3-pin SOT-23 (DBZ), Green (RoHS & no Sb/Br); Manufacturer: Texas Instruments; PartNumber: TLV810RDBZT; # of supplies monitored: 1; Iq(Typ)(uA): 9; Rating: Catalog; Reset Threshold Accuracy(%): 2; SubFamily: Supervisor and Reset IC; Threshold Voltage 1 (typ)(Typ)(V): 2.63; Time Delay(ms): 200; VCC(Max)(V): 6; VCC(Min)(V): 1.1; DatasheetVersion: SBVS158A; PackageVersion: revB, Apr-2005; PackageReference: DBZ3; PackageDescription: 3-Pin Plastic Small-Outline Package, 0.95 mm Pitch, 2.4 mm Lead Span; Supplier 1: Digi-Key; Supplier Part Number 1: TLV810RDBZT-ND; Supplier 2: Mouser; Supplier Part Number 2: 595-TLV810RDBZT; Output Driver Type / Reset Output: Active-high, Push-pull; Mounting Technology: Surface Mount; Code_JEDEC: TO-236-AB; ComponentLink1Description: Datasheet; ComponentLink1URL: http://www.ti.com/general/docs/lit/getliterature.tsp?genericPartNumber=TLV810R&fileType=pdf
footprint DBZ3_N (SOT23, 3-Leads, Body 2.9x1.3mm, Pitch 0.95mm, Lead Span 2.4mm, IPC Medium Density)
footprint DBZ3_L (SOT23, 3-Leads, Body 2.9x1.3mm, Pitch 0.95mm, Lead Span 2.4mm, IPC High Density)
footprint DBZ3_M (SOT23, 3-Leads, Body 2.9x1.3mm, Pitch 0.95mm, Lead Span 2.4mm, IPC Low Density)
pins: 1 GND (power), 2 RESET (out), 3 VDD (power)

## TLV810SDBZR
designator U?
Voltage Supervisor with Active-High, Push-Pull Reset, 1 Supply Monitored, -40 to 125 degC, 3-pin SOT-23 (DBZ), Green (RoHS & no Sb/Br); Manufacturer: Texas Instruments; PartNumber: TLV810SDBZR; # of supplies monitored: 1; Iq(Typ)(uA): 9; Rating: Catalog; Reset Threshold Accuracy(%): 2; SubFamily: Supervisor and Reset IC; Threshold Voltage 1 (typ)(Typ)(V): 2.93; Time Delay(ms): 200; VCC(Max)(V): 6; VCC(Min)(V): 1.1; DatasheetVersion: SBVS158A; PackageVersion: revB, Apr-2005; PackageReference: DBZ3; PackageDescription: 3-Pin Plastic Small-Outline Package, 0.95 mm Pitch, 2.4 mm Lead Span; Supplier 1: Digi-Key; Supplier Part Number 1: 296-29200-2-ND; Supplier 2: Digi-Key; Supplier Part Number 2: 296-29200-1-ND; Supplier 3: Digi-Key; Supplier Part Number 3: 296-29200-6-ND; Supplier 4: Mouser; Supplier Part Number 4: 595-TLV810SDBZR; Output Driver Type / Reset Output: Active-high, Push-pull; Mounting Technology: Surface Mount; Code_JEDEC: TO-236-AB; ComponentLink1Description: Datasheet; ComponentLink1URL: http://www.ti.com/general/docs/lit/getliterature.tsp?genericPartNumber=TLV810S&fileType=pdf
footprint DBZ3_N (SOT23, 3-Leads, Body 2.9x1.3mm, Pitch 0.95mm, Lead Span 2.4mm, IPC Medium Density)
footprint DBZ3_L (SOT23, 3-Leads, Body 2.9x1.3mm, Pitch 0.95mm, Lead Span 2.4mm, IPC High Density)
footprint DBZ3_M (SOT23, 3-Leads, Body 2.9x1.3mm, Pitch 0.95mm, Lead Span 2.4mm, IPC Low Density)
pins: 1 GND (power), 2 RESET (out), 3 VDD (power)

## TLV810SDBZT
designator U?
Voltage Supervisor with Active-High, Push-Pull Reset, 1 Supply Monitored, -40 to 125 degC, 3-pin SOT-23 (DBZ), Green (RoHS & no Sb/Br); Manufacturer: Texas Instruments; PartNumber: TLV810SDBZT; # of supplies monitored: 1; Iq(Typ)(uA): 9; Rating: Catalog; Reset Threshold Accuracy(%): 2; SubFamily: Supervisor and Reset IC; Threshold Voltage 1 (typ)(Typ)(V): 2.93; Time Delay(ms): 200; VCC(Max)(V): 6; VCC(Min)(V): 1.1; DatasheetVersion: SBVS158A; PackageVersion: revB, Apr-2005; PackageReference: DBZ3; PackageDescription: 3-Pin Plastic Small-Outline Package, 0.95 mm Pitch, 2.4 mm Lead Span; Supplier 1: Digi-Key; Supplier Part Number 1: 296-29332-2-ND; Supplier 2: Digi-Key; Supplier Part Number 2: 296-29332-1-ND; Supplier 3: Digi-Key; Supplier Part Number 3: 296-29332-6-ND; Supplier 4: Farnell; Supplier Part Number 4: 1972804; Supplier 5: Newark; Supplier Part Number 5: 59T0102; Supplier 6: Mouser; Supplier Part Number 6: 595-TLV810SDBZT; Output Driver Type / Reset Output: Active-high, Push-pull; Mounting Technology: Surface Mount; Code_JEDEC: TO-236-AB; ComponentLink1Description: Datasheet; ComponentLink1URL: http://www.ti.com/general/docs/lit/getliterature.tsp?genericPartNumber=TLV810S&fileType=pdf
footprint DBZ3_N (SOT23, 3-Leads, Body 2.9x1.3mm, Pitch 0.95mm, Lead Span 2.4mm, IPC Medium Density)
footprint DBZ3_L (SOT23, 3-Leads, Body 2.9x1.3mm, Pitch 0.95mm, Lead Span 2.4mm, IPC High Density)
footprint DBZ3_M (SOT23, 3-Leads, Body 2.9x1.3mm, Pitch 0.95mm, Lead Span 2.4mm, IPC Low Density)
pins: 1 GND (power), 2 RESET (out), 3 VDD (power)

## TLV810ZDBZR
designator U?
Voltage Supervisor with Active-High, Push-Pull Reset, 1 Supply Monitored, -40 to 125 degC, 3-pin SOT-23 (DBZ), Green (RoHS & no Sb/Br); Manufacturer: Texas Instruments; PartNumber: TLV810ZDBZR; # of supplies monitored: 1; Iq(Typ)(uA): 9; Rating: Catalog; Reset Threshold Accuracy(%): 2; SubFamily: Supervisor and Reset IC; Threshold Voltage 1 (typ)(Typ)(V): 2.32; Time Delay(ms): 200; VCC(Max)(V): 6; VCC(Min)(V): 1.1; DatasheetVersion: SBVS158A; PackageVersion: revB, Apr-2005; PackageReference: DBZ3; PackageDescription: 3-Pin Plastic Small-Outline Package, 0.95 mm Pitch, 2.4 mm Lead Span; Supplier 1: Digi-Key; Supplier Part Number 1: 296-29201-2-ND; Supplier 2: Digi-Key; Supplier Part Number 2: 296-29201-1-ND; Supplier 3: Digi-Key; Supplier Part Number 3: 296-29201-6-ND; Supplier 4: Mouser; Supplier Part Number 4: 595-TLV810ZDBZR; Output Driver Type / Reset Output: Active-high, Push-pull; Mounting Technology: Surface Mount; Code_JEDEC: TO-236-AB; ComponentLink1Description: Datasheet; ComponentLink1URL: http://www.ti.com/general/docs/lit/getliterature.tsp?genericPartNumber=TLV810Z&fileType=pdf
footprint DBZ3_N (SOT23, 3-Leads, Body 2.9x1.3mm, Pitch 0.95mm, Lead Span 2.4mm, IPC Medium Density)
footprint DBZ3_L (SOT23, 3-Leads, Body 2.9x1.3mm, Pitch 0.95mm, Lead Span 2.4mm, IPC High Density)
footprint DBZ3_M (SOT23, 3-Leads, Body 2.9x1.3mm, Pitch 0.95mm, Lead Span 2.4mm, IPC Low Density)
pins: 1 GND (power), 2 RESET (out), 3 VDD (power)

## TLV810ZDBZT
designator U?
Voltage Supervisor with Active-High, Push-Pull Reset, 1 Supply Monitored, -40 to 125 degC, 3-pin SOT-23 (DBZ), Green (RoHS & no Sb/Br); Manufacturer: Texas Instruments; PartNumber: TLV810ZDBZT; # of supplies monitored: 1; Iq(Typ)(uA): 9; Rating: Catalog; Reset Threshold Accuracy(%): 2; SubFamily: Supervisor and Reset IC; Threshold Voltage 1 (typ)(Typ)(V): 2.32; Time Delay(ms): 200; VCC(Max)(V): 6; VCC(Min)(V): 1.1; DatasheetVersion: SBVS158A; PackageVersion: revB, Apr-2005; PackageReference: DBZ3; PackageDescription: 3-Pin Plastic Small-Outline Package, 0.95 mm Pitch, 2.4 mm Lead Span; Supplier 1: Digi-Key; Supplier Part Number 1: TLV810ZDBZT-ND; Supplier 2: Mouser; Supplier Part Number 2: 595-TLV810ZDBZT; Output Driver Type / Reset Output: Active-high, Push-pull; Mounting Technology: Surface Mount; Code_JEDEC: TO-236-AB; ComponentLink1Description: Datasheet; ComponentLink1URL: http://www.ti.com/general/docs/lit/getliterature.tsp?genericPartNumber=TLV810Z&fileType=pdf
footprint DBZ3_N (SOT23, 3-Leads, Body 2.9x1.3mm, Pitch 0.95mm, Lead Span 2.4mm, IPC Medium Density)
footprint DBZ3_L (SOT23, 3-Leads, Body 2.9x1.3mm, Pitch 0.95mm, Lead Span 2.4mm, IPC High Density)
footprint DBZ3_M (SOT23, 3-Leads, Body 2.9x1.3mm, Pitch 0.95mm, Lead Span 2.4mm, IPC Low Density)
pins: 1 GND (power), 2 RESET (out), 3 VDD (power)

## TLV863MDBZR
designator U?
Voltage Supervisor with Active-Low, Open-Drain Reset, 1 Supply Monitored, -40 to 125 degC, 3-pin SOT-23 (DBZ), Green (RoHS & no Sb/Br); Manufacturer: Texas Instruments; PartNumber: TLV863MDBZR; # of supplies monitored: 1; Iq(Typ)(uA): 9; Rating: Catalog; Reset Threshold Accuracy(%): 2; SubFamily: Supervisor and Reset IC; Threshold Voltage 1 (typ)(Typ)(V): 4.38; Time Delay(ms): 200; VCC(Max)(V): 6; VCC(Min)(V): 1.1; DatasheetVersion: SBVS157B; PackageVersion: revB, Apr-2005; PackageReference: DBZ3; PackageDescription: 3-Pin Plastic Small-Outline Package, 0.95 mm Pitch, 2.4 mm Lead Span; Supplier 1: Digi-Key; Supplier Part Number 1: 296-29707-2-ND; Supplier 2: Digi-Key; Supplier Part Number 2: 296-29707-1-ND; Supplier 3: Digi-Key; Supplier Part Number 3: 296-29707-6-ND; Supplier 4: Newark; Supplier Part Number 4: 71T5418; Supplier 5: Mouser; Supplier Part Number 5: 595-TLV863MDBZR; Output Driver Type / Reset Output: Active-low, Open-drain; Mounting Technology: Surface Mount; Code_JEDEC: TO-236-AB; ComponentLink1Description: Datasheet; ComponentLink1URL: http://www.ti.com/general/docs/lit/getliterature.tsp?genericPartNumber=TLV863M&fileType=pdf
footprint DBZ3_N (SOT23, 3-Leads, Body 2.9x1.3mm, Pitch 0.95mm, Lead Span 2.4mm, IPC Medium Density)
footprint DBZ3_L (SOT23, 3-Leads, Body 2.9x1.3mm, Pitch 0.95mm, Lead Span 2.4mm, IPC High Density)
footprint DBZ3_M (SOT23, 3-Leads, Body 2.9x1.3mm, Pitch 0.95mm, Lead Span 2.4mm, IPC Low Density)
pins: 1 ~{RESET} (oc), 2 VDD (power), 3 GND (power)

## TLV863MDBZT
designator U?
Voltage Supervisor with Active-Low, Open-Drain Reset, 1 Supply Monitored, -40 to 125 degC, 3-pin SOT-23 (DBZ), Green (RoHS & no Sb/Br); Manufacturer: Texas Instruments; PartNumber: TLV863MDBZT; # of supplies monitored: 1; Iq(Typ)(uA): 9; Rating: Catalog; Reset Threshold Accuracy(%): 2; SubFamily: Supervisor and Reset IC; Threshold Voltage 1 (typ)(Typ)(V): 4.38; Time Delay(ms): 200; VCC(Max)(V): 6; VCC(Min)(V): 1.1; DatasheetVersion: SBVS157B; PackageVersion: revB, Apr-2005; PackageReference: DBZ3; PackageDescription: 3-Pin Plastic Small-Outline Package, 0.95 mm Pitch, 2.4 mm Lead Span; Supplier 1: Digi-Key; Supplier Part Number 1: TLV863MDBZT-ND; Supplier 2: Newark; Supplier Part Number 2: 71T5419; Supplier 3: Mouser; Supplier Part Number 3: 595-TLV863MDBZT; Output Driver Type / Reset Output: Active-low, Open-drain; Mounting Technology: Surface Mount; Code_JEDEC: TO-236-AB; ComponentLink1Description: Datasheet; ComponentLink1URL: http://www.ti.com/general/docs/lit/getliterature.tsp?genericPartNumber=TLV863M&fileType=pdf
footprint DBZ3_N (SOT23, 3-Leads, Body 2.9x1.3mm, Pitch 0.95mm, Lead Span 2.4mm, IPC Medium Density)
footprint DBZ3_L (SOT23, 3-Leads, Body 2.9x1.3mm, Pitch 0.95mm, Lead Span 2.4mm, IPC High Density)
footprint DBZ3_M (SOT23, 3-Leads, Body 2.9x1.3mm, Pitch 0.95mm, Lead Span 2.4mm, IPC Low Density)
pins: 1 ~{RESET} (oc), 2 VDD (power), 3 GND (power)

## TPS3103E12DBVR
designator U?
Ultra-Low Supply Current / Supply-Voltage Supervisory Circuit, 1 Supply Monitored, -40 to 85 degC, 6-pin SOT-23 (DBV), Green (RoHS & no Sb/Br); Manufacturer: Texas Instruments; PartNumber: TPS3103E12DBVR; # of supplies monitored: 1; Iq(Typ)(uA): 1.2; Output Driver Type / Reset Output: Active-low, Open-drain; Rating: Catalog; Reset Threshold Accuracy(%): 0.75; SubFamily: Supervisor and Reset IC; Threshold Voltage 1 (typ)(Typ)(V): 1.142; Threshold Voltage 2 (typ)(Typ)(V): Adjustable; Time Delay(ms): 130; VCC(Max)(V): 3.3; VCC(Min)(V): 0.4; DatasheetVersion: SLVS363E; PackageVersion: revK, Mar-2006; PackageReference: DBV6; PackageDescription: 6-Pin Plastic Small-Outline Package, 2.9 x 1.6 mm Body, 0.95 mm Pitch, 2.8 mm Lead Span; Supplier 1: Digi-Key; Supplier Part Number 1: 296-13393-2-ND; Supplier 2: Digi-Key; Supplier Part Number 2: 296-13393-1-ND; Supplier 3: Digi-Key; Supplier Part Number 3: 296-13393-6-ND; Supplier 4: Newark; Supplier Part Number 4: 77C0250; Supplier 5: Mouser; Supplier Part Number 5: 595-TPS3103E12DBVR; Mounting Technology: Surface Mount; Code_JEDEC: MO-178-AB*; ComponentLink1Description: Datasheet; ComponentLink1URL: http://www.ti.com/general/docs/lit/getliterature.tsp?genericPartNumber=TPS3103E12&fileType=pdf
footprint DBV6_N (SOT23, 6-Leads, Body 2.9x1.6mm, Pitch 0.95mm, Lead Span 2.8mm, IPC Medium Density)
footprint DBV6_L (SOT23, 6-Leads, Body 2.9x1.6mm, Pitch 0.95mm, Lead Span 2.8mm, IPC High Density)
footprint DBV6_M (SOT23, 6-Leads, Body 2.9x1.6mm, Pitch 0.95mm, Lead Span 2.8mm, IPC Low Density)
pins: 1 ~{RESET} (oc) "Active-low reset output. Either push-pull or open-drain output stage.", 2 GND (power), 3 ~{MR} (in) "Manual-reset input. Pull low to force a reset. R\E\S\E\T\ remains low as long as M\R\ is low and for the timeout period after M\R\ goes high. Leave unconnected or connect to VDD when unused.", 4 PFI (in) "Power-fail input compares to 0.551 V with no additional delay. Connect to VDD if not used.", 5 ~{PFO} (oc) "Power-fail output. Goes high when voltage at PFI rises above 0.551 V.", 6 VDD (power) "Supply voltage. Powers the device and monitors its own voltage."

## TPS3103E12DBVRG4
designator U?
Ultra-Low Supply Current / Supply-Voltage Supervisory Circuit, 1 Supply Monitored, -40 to 85 degC, 6-pin SOT-23 (DBV), Green (RoHS & no Sb/Br); Manufacturer: Texas Instruments; PartNumber: TPS3103E12DBVRG4; # of supplies monitored: 1; Iq(Typ)(uA): 1.2; Output Driver Type / Reset Output: Active-low, Open-drain; Rating: Catalog; Reset Threshold Accuracy(%): 0.75; SubFamily: Supervisor and Reset IC; Threshold Voltage 1 (typ)(Typ)(V): 1.142; Threshold Voltage 2 (typ)(Typ)(V): Adjustable; Time Delay(ms): 130; VCC(Max)(V): 3.3; VCC(Min)(V): 0.4; DatasheetVersion: SLVS363E; PackageVersion: revK, Mar-2006; PackageReference: DBV6; PackageDescription: 6-Pin Plastic Small-Outline Package, 2.9 x 1.6 mm Body, 0.95 mm Pitch, 2.8 mm Lead Span; Supplier 1: Digi-Key; Supplier Part Number 1: TPS3103E12DBVRG4-ND; Supplier 2: Newark; Supplier Part Number 2: 71J8084; Supplier 3: Mouser; Supplier Part Number 3: 595-TPS3103E12DBVRG4; Mounting Technology: Surface Mount; Code_JEDEC: MO-178-AB*; ComponentLink1Description: Datasheet; ComponentLink1URL: http://www.ti.com/general/docs/lit/getliterature.tsp?genericPartNumber=TPS3103E12&fileType=pdf
footprint DBV6_N (SOT23, 6-Leads, Body 2.9x1.6mm, Pitch 0.95mm, Lead Span 2.8mm, IPC Medium Density)
footprint DBV6_L (SOT23, 6-Leads, Body 2.9x1.6mm, Pitch 0.95mm, Lead Span 2.8mm, IPC High Density)
footprint DBV6_M (SOT23, 6-Leads, Body 2.9x1.6mm, Pitch 0.95mm, Lead Span 2.8mm, IPC Low Density)
pins: 1 ~{RESET} (oc) "Active-low reset output. Either push-pull or open-drain output stage.", 2 GND (power), 3 ~{MR} (in) "Manual-reset input. Pull low to force a reset. R\E\S\E\T\ remains low as long as M\R\ is low and for the timeout period after M\R\ goes high. Leave unconnected or connect to VDD when unused.", 4 PFI (in) "Power-fail input compares to 0.551 V with no additional delay. Connect to VDD if not used.", 5 ~{PFO} (oc) "Power-fail output. Goes high when voltage at PFI rises above 0.551 V.", 6 VDD (power) "Supply voltage. Powers the device and monitors its own voltage."